# Altium schematic symbol library ic-power-linear-reg.SchLib: 16 symbols
Pins are listed as number, name and electrical type; pins without a type are passive.

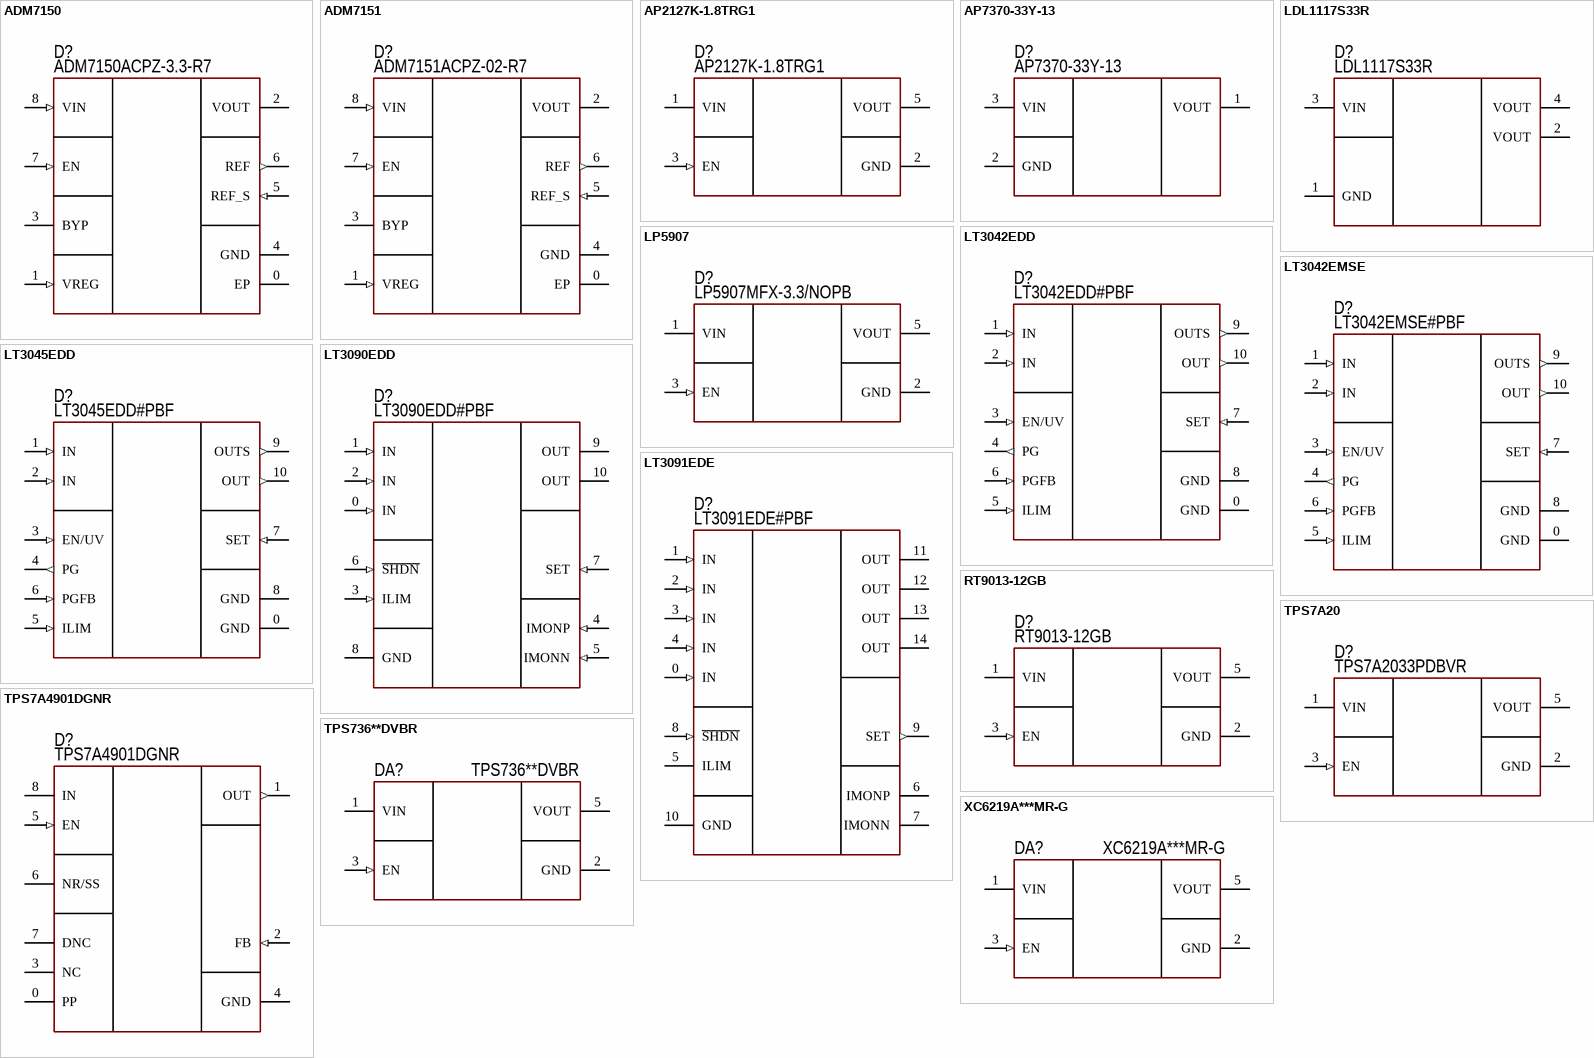
[diagram p0: symbols ADM7150 to XC6219A***MR-G]

## ADM7150
designator D?  PartNumber: ADM7150ACPZ-3.3-R7
Linear voltage regulator; Manufacturer: Analog Devices; ValueManufacturerPartNumber: RF Linear Regulator, 4.5...16V, 0.6V, 3.3V, 800mA, -40...+125°C, LFCSP-8; VoltageInput: 4.5...16V; MaxDropout: 0.6V; CurrentOutput: 800mA; VoltageOutput: 3.3V; HelpURL: https://eu.mouser.com/ProductDetail/Analog-Devices/ADM7150ACPZ-3.3-R7?qs=J50fqX%2Fl9iolnymw41jRZg%3D%3D; Package: LFCSP-8; ComponentType: RF Linear Regulator; Temperature: -40...+125°C
footprint 8-LFCSP-EP-170X244 (SON, (DFN) 0.50mm,pitch; 8 pin,3.00mm W X 3.00mm L X 0.80mm H body (w/thermal tab 1.7 X2.44mm), IPC Medium Density)
footprint 8-SOIC-PAD (pitch 1.27 mm, power pad)
pins: 0 EP (power), 1 VREG (in), 2 VOUT (power), 3 BYP, 4 GND (power), 5 REF_S (in), 6 REF (out), 7 EN (in), 8 VIN (in)

## ADM7151
designator D?  PartNumber: ADM7151ACPZ-02-R7
Linear voltage regulator; Manufacturer: Analog Devices; ValueManufacturerPartNumber: RF Linear Regulator, 4.5...16V, 0.6V, 1.5...5.1V, 800mA, -40...+125°C, LFCSP-8; VoltageInput: 4.5...16V; MaxDropout: 0.6V; CurrentOutput: 800mA; VoltageOutput: 1.5...5.1V; HelpURL: https://eu.mouser.com/ProductDetail/Analog-Devices/ADM7151ACPZ-02-R7?qs=nSj%2Fl9JG2%2FoKyv5Yt7%252BLLg%3D%3D; Package: LFCSP-8; ComponentType: RF Linear Regulator; Temperature: -40...+125°C
footprint 8-LFCSP-EP-170X244 (SON, (DFN) 0.50mm,pitch; 8 pin,3.00mm W X 3.00mm L X 0.80mm H body (w/thermal tab 1.7 X2.44mm), IPC Medium Density)
footprint 8-SOIC-PAD (pitch 1.27 mm, power pad)
pins: 0 EP (power), 1 VREG (in), 2 VOUT (power), 3 BYP, 4 GND (power), 5 REF_S (in), 6 REF (out), 7 EN (in), 8 VIN (in)

## AP2127K-1.8TRG1
designator D?  PartNumber: AP2127K-1.8TRG1
Linear voltage regulator; Manufacturer: Diodes Incorporated; ValueManufacturerPartNumber: Linear voltage regulator, input 2.5...6V, 0.7V, output 1.8V, 0.3A, -40...+85°C, SOT23-5; VoltageInput: input 2.5...6V; MaxDropout: 0.7V; CurrentOutput: 0.3A; VoltageOutput: output 1.8V; HelpURL: https://www.digikey.com/en/products/detail/diodes-incorporated/AP2127K-1-8TRG1/4470784; Package: SOT23-5; ComponentType: Linear voltage regulator; Temperature: -40...+85°C
footprint SOT23-5 (pitch 0.95 mm)
pins: 1 VIN, 2 GND, 3 EN (in), 5 VOUT

## AP7370-33Y-13
designator D?  PartNumber: AP7370-33Y-13
Linear voltage regulator; Manufacturer: Diodes; ValueManufacturerPartNumber: Linear voltage regulator, max input 18V, 0.6V, output 3.3V, 300mA, -40...+125°C, SOT-89; VoltageInput: max input 18V; MaxDropout: 0.6V; CurrentOutput: 300mA; VoltageOutput: output 3.3V; HelpURL: https://www.digikey.com/product-detail/en/diodes-incorporated/AP7370-33Y-13/AP7370-33Y-13DICT-ND/10235832; Package: SOT-89; ComponentType: Linear voltage regulator; Temperature: -40...+125°C
footprint SOT89
pins: 1 VOUT (power), 2 GND (power), 3 VIN (power)

## LDL1117S33R
designator D?  PartNumber: LDL1117S33R
Linear voltage regulator; Manufacturer: STMicroelectronics; ValueManufacturerPartNumber: Linear voltage regulator, input 3.9...18V, 0.6V, output 3.3V, 1.2A, -40...+85°C, SOT223; VoltageInput: input 3.9...18V; MaxDropout: 0.6V; CurrentOutput: 1.2A; VoltageOutput: output 3.3V; HelpURL: https://www.digikey.com/product-detail/en/stmicroelectronics/LDL1117S33R/497-17239-1-ND/7102079; Package: SOT223; ComponentType: Linear voltage regulator; Temperature: -40...+85°C
footprint SOT223 (SOT223, 4-Leads, Body 6,50x7,00mm (avg), Pitch 2,30mm, IPC Medium Density)
pins: 1 GND (power), 2 VOUT (power), 3 VIN (power), 4 VOUT (power)

## LP5907
designator D?  PartNumber: LP5907MFX-3.3/NOPB
Linear voltage regulator; Manufacturer: Texas Instruments; ValueManufacturerPartNumber: Ultra Low Noise LDO Voltage Regulators, 2.2...5.5V, 0.25V, 3.3V, 250mA, -40...+125°C, SOT23-5; VoltageInput: 2.2...5.5V; MaxDropout: 0.25V; CurrentOutput: 250mA; VoltageOutput: 3.3V; HelpURL: https://www.digikey.com/en/products/detail/texas-instruments/LP5907MFX-3-3-NOPB/3906441?s=N4IgTCBcDaIDIAUCsBOADAdgLIDEAaAtAMwB0RA9AHIDyCAQiALoC%2BQA; Package: SOT23-5; ComponentType: Ultra Low Noise LDO Voltage Regulators; Temperature: -40...+125°C
footprint SOT23-5 (pitch 0.95 mm)
pins: 1 VIN, 2 GND, 3 EN (in), 5 VOUT

## LT3042EDD
designator D?  PartNumber: LT3042EDD#PBF
Linear voltage regulator; Manufacturer: Analog Devices; ValueManufacturerPartNumber: Ultra Low Noise Linear Regulator, 1.8...20V, 0.35V, 0...15V, 200mA, -40...+125°C, DFN-10; VoltageInput: 1.8...20V; MaxDropout: 0.35V; CurrentOutput: 200mA; VoltageOutput: 0...15V; HelpURL: https://eu.mouser.com/ProductDetail/Analog-Devices/LT3042EDDPBF?qs=oahfZPh6IAIAxPHCQtsgLA%3D%3D; Package: DFN-10; ComponentType: Ultra Low Noise Linear Regulator; Temperature: -40...+125°C
footprint 10-DFN (3x3 mm, pitch 0.5 mm, power pad)
pins: 0 GND (power), 1 IN (in), 2 IN (in), 3 EN/UV (in), 4 PG (out), 5 ILIM (in), 6 PGFB (in), 7 SET (in), 8 GND (power), 9 OUTS (out), 10 OUT (out)

## LT3042EMSE
designator D?  PartNumber: LT3042EMSE#PBF
Linear voltage regulator; Manufacturer: Analog Devices; ValueManufacturerPartNumber: Ultra Low Noise Linear Regulator, 1.8...20V, 0.35V, 0...15V, 200mA, -40...+125°C, MSOP-10; VoltageInput: 1.8...20V; MaxDropout: 0.35V; CurrentOutput: 200mA; VoltageOutput: 0...15V; HelpURL: https://eu.mouser.com/ProductDetail/Analog-Devices/LT3042EMSEPBF?qs=oahfZPh6IAJ3XP16d20ITw%3D%3D; Package: MSOP-10; ComponentType: Ultra Low Noise Linear Regulator; Temperature: -40...+125°C
footprint 10-MSOP-PAD (3x3 mm, pitch 0.5 mm)
pins: 0 GND (power), 1 IN (in), 2 IN (in), 3 EN/UV (in), 4 PG (out), 5 ILIM (in), 6 PGFB (in), 7 SET (in), 8 GND (power), 9 OUTS (out), 10 OUT (out)

## LT3045EDD
designator D?  PartNumber: LT3045EDD#PBF
Linear voltage regulator; Manufacturer: Analog Devices; ValueManufacturerPartNumber: Ultra Low Noise Linear Regulator, 1.8...20V, 0.35V, 0...15V, 500mA, -40...+125°C, DFN-10; VoltageInput: 1.8...20V; MaxDropout: 0.35V; CurrentOutput: 500mA; VoltageOutput: 0...15V; HelpURL: https://eu.mouser.com/ProductDetail/Analog-Devices/LT3045EDDPBF?qs=oahfZPh6IAItEW%2FaDCA8LQ%3D%3D; Package: DFN-10; ComponentType: Ultra Low Noise Linear Regulator; Temperature: -40...+125°C
footprint 10-DFN (3x3 mm, pitch 0.5 mm, power pad)
pins: 0 GND (power), 1 IN (in), 2 IN (in), 3 EN/UV (in), 4 PG (out), 5 ILIM (in), 6 PGFB (in), 7 SET (in), 8 GND (power), 9 OUTS (out), 10 OUT (out)

## LT3090EDD
designator D?  PartNumber: LT3090EDD#PBF
Negative Linear voltage regulator; Manufacturer: Analog Devices; ValueManufacturerPartNumber: Ultra Low Noise Linear Regulator, -1.5...-36V, 0.3V, 0...-32V, 600mA, -40...+125°C, DFN-10; VoltageInput: -1.5...-36V; MaxDropout: 0.3V; CurrentOutput: 600mA; VoltageOutput: 0...-32V; HelpURL: https://eu.mouser.com/ProductDetail/Analog-Devices/LT3090EDDPBF?qs=hVkxg5c3xu9WZ%2FWLH6joRw%3D%3D; Package: DFN-10; ComponentType: Ultra Low Noise Linear Regulator; Temperature: -40...+125°C
footprint 10-DFN (3x3 mm, pitch 0.5 mm, power pad)
pins: 0 IN (in), 1 IN (in), 2 IN (in), 3 ILIM (in), 4 IMONP (in), 5 IMONN (in), 6 ~{SHDN} (in), 7 SET (in), 8 GND (power), 9 OUT (power), 10 OUT (power)

## LT3091EDE
designator D?  PartNumber: LT3091EDE#PBF
Negative Linear voltage regulator; Manufacturer: Analog Devices; ValueManufacturerPartNumber: Ultra Low Noise Linear Regulator, -1.5...-36V, 0.36V, 0...-32V, 1.5A, -40...+125°C, DFN-14; VoltageInput: -1.5...-36V; MaxDropout: 0.36V; CurrentOutput: 1.5A; VoltageOutput: 0...-32V; HelpURL: https://eu.mouser.com/ProductDetail/Analog-Devices/LT3091EDEPBF?qs=oahfZPh6IAKKMwQJHQ5l%252Bw%3D%3D; Package: DFN-14; ComponentType: Ultra Low Noise Linear Regulator; Temperature: -40...+125°C
footprint 14-DFN
pins: 0 IN (in), 1 IN (in), 2 IN (in), 3 IN (in), 4 IN (in), 5 ILIM, 6 IMONP, 7 IMONN, 8 ~{SHDN} (in), 9 SET (out), 10 GND (power), 11 OUT (power), 12 OUT (power), 13 OUT (power), 14 OUT (power)

## RT9013-12GB
designator D?  PartNumber: RT9013-12GB
Linear voltage regulator 1.2V; Manufacturer: Richtek; ValueManufacturerPartNumber: Linear voltage regulator, input 2.2...5.5V, 250mV, output 1.2V, 0.5A, -40...+85°C, SOT23-5; VoltageInput: input 2.2...5.5V; MaxDropout: 250mV; CurrentOutput: 0.5A; VoltageOutput: output 1.2V; HelpURL: https://static.chipdip.ru/lib/639/DOC011639013.pdf; Package: SOT23-5; ComponentType: Linear voltage regulator; Temperature: -40...+85°C
footprint SOT23-5 (pitch 0.95 mm)
pins: 1 VIN, 2 GND, 3 EN (in), 5 VOUT

## TPS7A20
designator D?  PartNumber: TPS7A2033PDBVR
Linear voltage regulator; Manufacturer: Texas Instruments; ValueManufacturerPartNumber: Ultra Low Noise LDO Voltage Regulators, 1.6...6V, 0.14V, 3.3V, 300mA, -40...+125°C, SOT23-5; VoltageInput: 1.6...6V; MaxDropout: 0.14V; CurrentOutput: 300mA; VoltageOutput: 3.3V; HelpURL: https://www.digikey.com/en/products/detail/texas-instruments/TPS7A2033PDBVR/13566866?s=N4IgTCBcDaICoAUDKB2AgmADAZmwgIgEIBqASiALoC%2BQA; Package: SOT23-5; ComponentType: Ultra Low Noise LDO Voltage Regulators; Temperature: -40...+125°C
footprint SOT23-5 (pitch 0.95 mm)
pins: 1 VIN, 2 GND, 3 EN (in), 5 VOUT

## TPS7A4901DGNR
designator D?  PartNumber: TPS7A4901DGNR
Linear voltage regulator; Manufacturer: Texas Instruments; ValueManufacturerPartNumber: Ultralow-Noise, Positive Linear Regulator, 3...36V, 0.6V, 1.194...33V, 150mA, -40...+125°C, 8-MSOP Power Pad; VoltageInput: 3...36V; MaxDropout: 0.6V; CurrentOutput: 150mA; VoltageOutput: 1.194...33V; HelpURL: https://www.digikey.com/en/products/detail/texas-instruments/TPS7A4901DGNR/2361061?s=N4IgTCBcDaICoAUDKB2AggFgJwAYCMAIgOIByASiALoC%2BQA; Package: 8-MSOP Power Pad; ComponentType: Ultralow-Noise, Positive Linear Regulator; Temperature: -40...+125°C
footprint 8-MSOP-PAD (pitch 0.65 mm, power pad)
pins: 0 PP, 1 OUT (out), 2 FB (in), 3 NC, 4 GND, 5 EN (in), 6 NR/SS, 7 DNC, 8 IN (power)

## TPS736**DVBR
designator DA?  PartNumber: TPS736**DVBR
ULN ULDO linear voltage regulator; Manufacturer: Texas Instruments; Vin: 1.7-5.5V; MaxDropout: 75mV; CurrentOutput: 300mA; VoltageOutput: 3.3V; HelpURL: http://www.ti.com/lit/gpn/tps736; Package: SOT23-5; ComponentType: ULN ULDO Voltage Regulators; ValueManufacturerPartNumber: =ComponentType+', '+VoltageInput+', '+MaxDropout+', '+VoltageOutput+', '+CurrentOutput+', '+Temperature+', '+Package; Temperature: -40...+125°C
footprint SOT23-5 (pitch 0.95 mm)
pins: 1 VIN, 2 GND, 3 EN (in), 5 VOUT (power)

## XC6219A***MR-G
designator DA?  PartNumber: XC6219A***MR-G
Linear voltage regulator; Manufacturer: Torex; Vin: 2-6V; MaxDropout: 250mV; CurrentOutput: 300mA; VoltageOutput: 3.3V; HelpURL: https://s3.amazonaws.com/snapeda/datasheet/XC6219A332MR-G_Torex.pdf; Package: SOT23-5; ComponentType: LN LDO Voltage Regulators; ValueManufacturerPartNumber: =ComponentType+', '+VoltageInput+', '+MaxDropout+', '+VoltageOutput+', '+CurrentOutput+', '+Temperature+', '+Package; Temperature: -40...+125°C
footprint SOT23-5 (pitch 0.95 mm)
pins: 1 VIN, 2 GND, 3 EN (in), 5 VOUT (power)